# EAGLE library part ISPGDS14 (library AMD_Taxi)
Lattice ispGDS
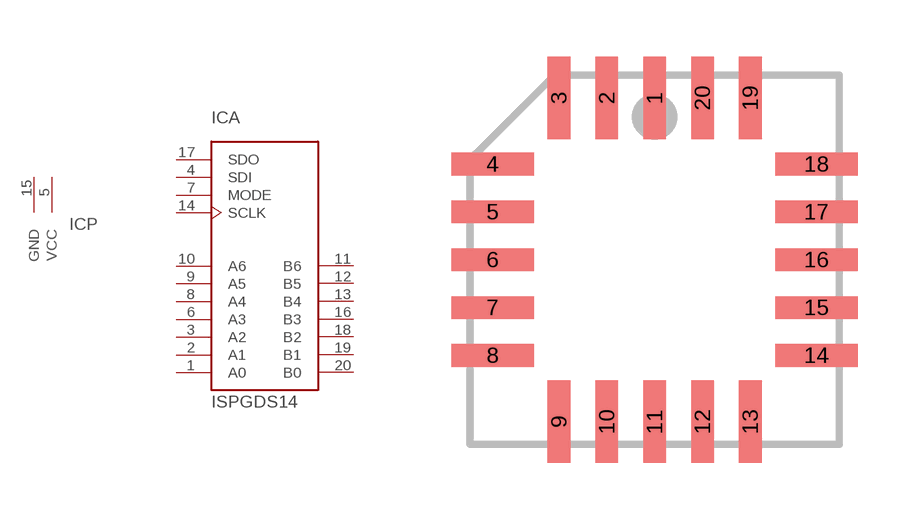
[diagram p0: symbol with the pads of PLCC20S; footprint PLCC20S]

Designator prefix IC; gates P=VCCGND A=ISPGDS14

## ISPGDS14  [PLCC20S]
1  A:A0
2  A:A1
3  A:A2
4  A:SDI  in
5  P:VCC  sup
6  A:A3
7  A:MODE  in
8  A:A4
9  A:A5
10  A:A6
11  A:B6
12  A:B5
13  A:B4
14  A:SCLK  in
15  P:GND  sup
16  A:B3
17  A:SDO  out
18  A:B2
19  A:B1
20  A:B0

## Footprint PLCC20S (pad centres in mm)
smd 0.6 x 2.2: 1 0,4.3; 2 -1.27,4.3; 3 -2.54,4.3; 9 -2.54,-4.3; 10 -1.27,-4.3; 11 0,-4.3; 12 1.27,-4.3; 13 2.54,-4.3; 19 2.54,4.3; 20 1.27,4.3
smd 2.2 x 0.6: 4 -4.3,2.54; 5 -4.3,1.27; 6 -4.3,0; 7 -4.3,-1.27; 8 -4.3,-2.54; 14 4.3,-2.54; 15 4.3,-1.27; 16 4.3,0; 17 4.3,1.27; 18 4.3,2.54